# Altium schematic symbol library Oscillators.SchLib: 2 symbols
Pins are listed as number, name and electrical type; pins without a type are passive.

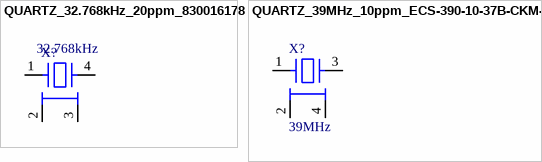
[diagram p0: symbols QUARTZ_32.768kHz_20ppm_830016178 to QUARTZ_39MHz_10ppm_ECS-390-10-37B-CKM-TR]

## QUARTZ_32.768kHz_20ppm_830016178
designator X?  FREQUENCY: 32.768kHz  (hidden comment: QUARTZ_32.768kHz_20ppm_830016178)
QUARTZ 32.768kHz 20ppm 830016178; MANUFACTURER: WURTH; MANUFACTURER REFERENCE: 830016178; MOUNTING: SMD; PACKAGING: 4-SOJ; TOLERANCE: 20 ppm
footprint 4-SOJ
pins: 1, 2, 3, 4

## QUARTZ_39MHz_10ppm_ECS-390-10-37B-CKM-TR
designator X?  FREQUENCY: 39MHz  (hidden comment: QUARTZ_39MHz_10ppm_ECS-390-10-37B-CKM-TR)
QUARTZ 39MHz 10ppm ECS-390-10-37B-CKM-TR; MANUFACTURER: ECS; MANUFACTURER REFERENCE: ECS-390-10-37B-CKM-TR; MOUNTING: SMD; PACKAGING: 4-SMD; TOLERANCE: 10 ppm; STABILITY: 10 ppm
footprint 4-SMD
pins: 1, 2, 3, 4